# Altium footprint library PcbLib1.PcbLib: 224 footprints (part 8 of 14)
Each footprint in its own frame and in the unit in brackets; x right, y up, seen from the top. Pads: shape width x height; smd on the part's side, far side on the other; paste and mask are expansions set on the pad; w line width, h text height; cw(c..) or ccw(c..) is an arc to the next point about the centre after c.
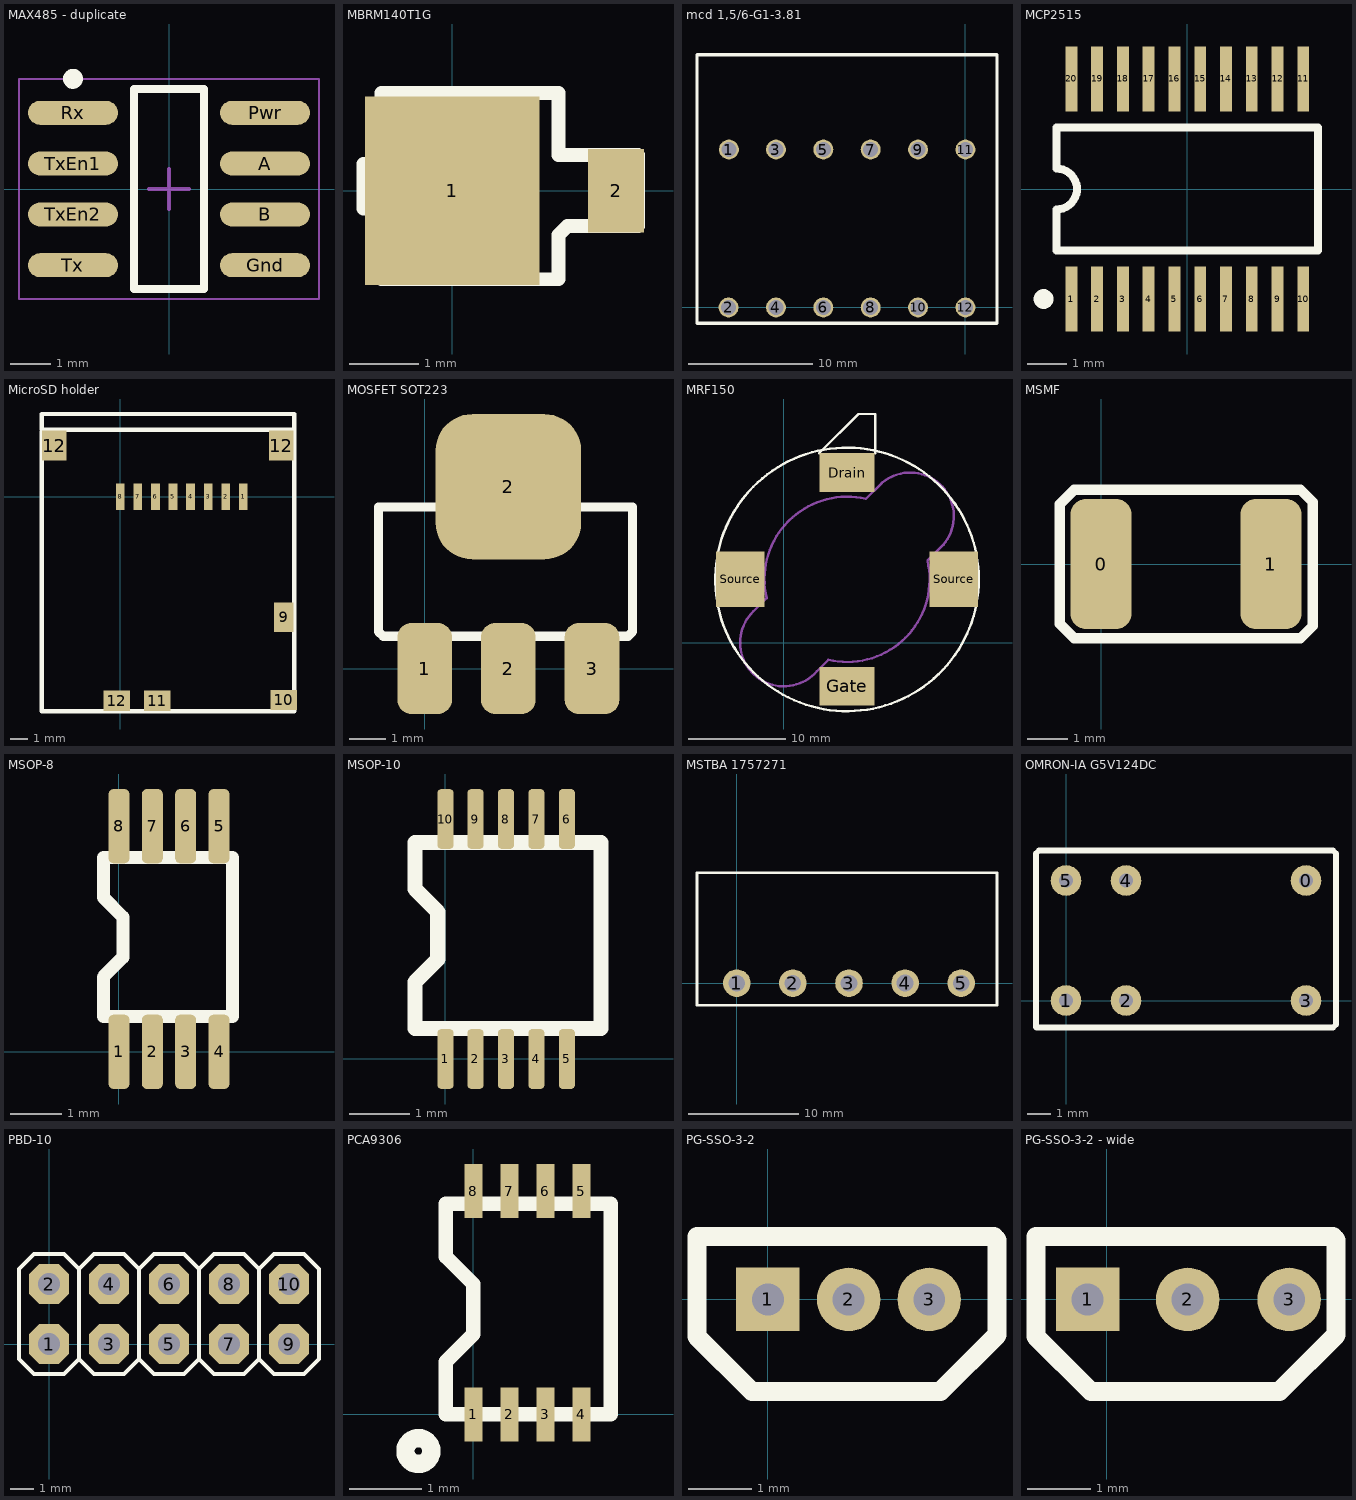
[diagram p7: the footprints below, top view; thin cyan lines are the x and y axes]

## MAX485 - duplicate [mm] "SOIC, 8-Leads, Body 4,90x3,90mm, Pitch 1,27mm, IPC Medium Density"
height 1.65
pads (8):
  oval 2.25x0.6 smd: A(2.4,0.635) B(2.4,-0.635) Gnd(2.4,-1.905) Pwr(2.4,1.905) Rx(-2.4,1.905) Tx(-2.4,-1.905) TxEn1(-2.4,0.635) TxEn2(-2.4,-0.635)
Top Overlay:
  circle w0.25: c-2.4,2.755 r0.125
  lines w0.2: -0.875,-2.5 0.875,-2.5 0.875,2.5 -0.875,2.5 -0.875,-2.5
Mechanical 15:
  lines w0.05: -3.75,-2.75 3.75,-2.75 3.75,2.75 -3.75,2.75 -3.75,-2.75
  lines w0.1: -0.5,0 0.5,0 ; 0,-0.5 0,0.5

## MBRM140T1G [mm]
pads (2):
  rect 2.5x2.7 smd: 1(0,0)
  rect 0.8x1.2 smd: 2(2.35,0)
Top Overlay:
  lines w0.2: -1.016,-0.254 -1.27,-0.254 -1.27,0.381 -1.016,0.381 -1.016,1.397 ; -1.016,1.397 1.524,1.397 1.524,0.508 2.667,0.508 2.667,-0.508 1.651,-0.508 1.524,-0.635 1.524,-1.27 -1.016,-1.27 -1.016,1.397

## mcd 1,5/6-G1-3.81 [mm]
height 20
pads (12):
  round 1.6 hole 1.2: 1(-19.025,12.7) 2(-19.05,0) 3(-15.24,12.7) 4(-15.24,0) 5(-11.43,12.7) 6(-11.43,0) 7(-7.62,12.7) 8(-7.62,0) 9(-3.81,12.7) 10(-3.81,0) 11(0,12.7) 12(0,0)
Top Overlay:
  lines w0.254: -21.59,-1.27 -21.59,20.32 2.54,20.32 2.54,-1.27 -21.59,-1.27

## MCP2515 [mm] "CAN Bus"
height 2
pads (20):
  rect 0.3x1.65 smd: 1(-2.925,-2.775) 2(-2.275,-2.775) 3(-1.625,-2.775) 4(-0.975,-2.775) 5(-0.325,-2.775) 6(0.325,-2.775) 7(0.975,-2.775) 8(1.625,-2.775) 9(2.275,-2.775) 10(2.925,-2.775) 11(2.925,2.775) 12(2.275,2.775) 13(1.625,2.775) 14(0.975,2.775) 15(0.325,2.775) 16(-0.325,2.775) 17(-0.975,2.775) 18(-1.625,2.775) 19(-2.275,2.775) 20(-2.925,2.775)
Top Overlay:
  circle w0.25: c-3.625,-2.775 r0.125
  lines w0.2: -3.3,-1.55 -3.3,-0.517 ccw(c-3.3,0) -3.3,0.517 -3.3,1.55 3.3,1.55 3.3,-1.55 -3.3,-1.55

## MicroSD holder [mm]
height 1
pads (14):
  rect 0.5x1.5 smd paste+0 mask+0.1: 1(7,0) 2(6,0) 3(5,0) 4(4,0) 5(3,0) 6(2,0) 7(1,0) 8(0,0)
  rect 1.1x1.7 smd paste+0 mask+0.1: 9(9.3,-6.85)
  rect 1.5x1.15 smd paste+0 mask+0.1: 10(9.3,-11.55) 11(2.1,-11.6) 12(-0.2,-11.6)
  rect 1.4x1.7 smd paste+0 mask+0.1: 12(-3.75,2.9) 12(9.15,2.9)
Top Overlay:
  lines w0.254: -4.445,3.683 -4.445,-12.192 9.906,-12.192 9.906,3.81 ; 9.906,3.81 -4.445,3.81 -4.445,4.699 9.906,4.699 9.906,3.81

## MOSFET SOT223 [mm]
height 1
pads (4):
  rrect50% 1.5x2.5 smd mask+0.1: 1(0,0) 2(2.3,0) 3(4.6,0)
  rrect50% 4x4 smd: 2(2.3,5)
Top Overlay:
  lines w0.254: -1.27,1.016 -1.27,4.445 5.715,4.445 5.715,1.016 5.588,0.889 -1.143,0.889 -1.27,1.016

## MRF150 [mm]
height 5
pads (4):
  rect 5.7x4 smd: Drain(6.5,17.5) Gate(6.5,-4.5)
  rect 5x5.7 smd: Source(-4.5,6.5) Source(17.5,6.5)
Top Overlay:
  circle w0.254: c6.5,6.5 r13.56
  lines w0.254: 3.632,19.482 7.671,23.52 9.398,23.52 9.398,19.482
Mechanical 1:
  lines w0.254: 10.084,16.434 8.433,14.783 ccw(c6.511,6.494) -1.778,4.572 -3.124,3.226 ccw(c0.003,-0.005) 3.404,-2.946 4.572,-1.778 ccw(c6.497,6.508) 14.783,8.433 16.434,10.084 ; 10.087,16.43 cw(c12.998,12.998) 16.43,10.087

## MSMF [mm] "PTC Fuse"
height 2
pads (2):
  rrect50% 1.5x3.2 smd: 0(0,0) 1(4.175,0)
Top Overlay:
  lines w0.254: -1.016,-1.473 -1.016,1.473 -0.66,1.829 4.902,1.829 5.207,1.524 5.207,-1.524 4.902,-1.829 -0.66,-1.829 -1.016,-1.473

## MSOP-8 [mm]
pads (8):
  rrect50% 0.41x1.45 smd: 1(0,0) 2(0.65,0) 3(1.3,0) 4(1.95,0) 5(1.95,4.4) 6(1.3,4.4) 7(0.65,4.4) 8(0,4.4)
Top Overlay:
  lines w0.254: -0.305,0.686 -0.305,1.461 0.076,1.842 0.076,2.63 -0.305,3.011 -0.305,3.786 2.21,3.786 2.21,0.686 -0.305,0.686

## MSOP-10 [mm]
pads (10):
  rrect50% 0.27x1 smd: 1(0,0) 2(0.5,0) 3(1.008,0) 4(1.516,0) 5(2.024,0) 6(2.024,4) 7(1.516,4) 8(1.008,4) 9(0.5,4) 10(0,4)
Top Overlay:
  lines w0.254: -0.508,0.508 -0.508,1.283 -0.127,1.664 -0.127,2.452 -0.508,2.833 -0.508,3.608 2.592,3.608 2.592,0.508 -0.508,0.508

## MSTBA 1757271 [mm]
height 8
pads (5):
  round 2.5 hole 1.5: 1(0,0) 2(5.08,0) 3(10.16,0) 5(20.32,0)
  round 2.5 hole 1.55: 4(15.24,0)
Top Overlay:
  lines w0.254: -3.6,-2 -3.6,10 23.56,10 23.56,-2 -3.6,-2

## OMRON-IA G5V124DC [mm]
height 7
pads (6):
  round 1.3 hole 0.6: 0(10.16,5.08) 1(0,0) 2(2.54,0) 3(10.16,0) 4(2.54,5.08) 5(0,5.08)
Top Overlay:
  lines w0.254: -1.27,-1.13 -1.257,-1.143 11.303,-1.143 11.43,-1.016 11.43,6.223 11.303,6.35 -1.143,6.35 -1.27,6.223 -1.27,-1.13

## PBD-10 [mil]
pads (10):
  oct 66x66 hole 37.4: 1(0,0) 2(0,100) 3(100,0) 4(100,100) 5(200,0) 6(200,100) 7(300,0) 8(300,100) 9(400,0) 10(400,100)
Top Overlay:
  rectangle: 90,-10 110,10
  rectangle: 90,90 110,110
  rectangle: -10,90 10,110
  rectangle: -10,-10 10,10
  rectangle: 290,-10 310,10
  rectangle: 290,90 310,110
  rectangle: 190,90 210,110
  rectangle: 190,-10 210,10
  rectangle: 390,90 410,110
  rectangle: 390,-10 410,10
  lines w6: 50,-25 50,125 ; 50,-25 75,-50 125,-50 150,-25 ; 50,-25 25,-50 -25,-50 -50,-25 -50,125 -25,150 25,150 50,125 ; 50,125 75,150 125,150 150,125 ; 150,-25 150,125 ; 150,-25 150,125 ; 150,-25 175,-50 225,-50 250,-25 ; 150,125 175,150 225,150 250,125 ; 250,-25 250,125 ; 250,-25 275,-50 325,-50 350,-25 ; 250,125 275,150 325,150 350,125 ; 350,-25 350,125 ; 350,-25 350,125 ; 350,-25 375,-50 425,-50 450,-25 450,125 425,150 375,150 350,125

## PCA9306 [mm]
pads (8):
  rect 0.25x0.75 smd mask+0: 1(0,0) 2(0.5,0) 3(1,0) 4(1.5,0) 5(1.5,3.1) 6(1,3.1) 7(0.5,3.1) 8(0,3.1)
Top Overlay:
  circle w0.254: c-0.762,-0.508 r0.18
  lines w0.2: -0.381,0 1.905,0 1.905,2.921 -0.381,2.921 -0.381,2.191 0,1.81 0,1.111 -0.381,0.73 -0.381,0

## PG-SSO-3-2 [mm]
height 5
pads (3):
  rect 1x1 hole 0.5: 1(0,0)
  round 1 hole 0.5: 2(1.27,0) 3(2.54,0)
Top Overlay:
  lines w0.3: -1.118,-0.584 -0.254,-1.448 2.718,-1.448 3.607,-0.559 3.607,0.94 3.556,0.991 -1.118,0.991 -1.118,-0.584

## PG-SSO-3-2 - wide [mm]
height 5
pads (3):
  rect 1x1 hole 0.5: 1(-0.305,0)
  round 1 hole 0.5: 2(1.27,0) 3(2.87,0)
Top Overlay:
  lines w0.3: -1.118,-0.584 -1.118,0.991 3.556,0.991 3.607,0.94 3.607,-0.559 2.718,-1.448 -0.254,-1.448 -1.118,-0.584